# Altium integrated library 282837-3.IntLib: 1 symbol
Pins are listed as number, name and electrical type; pins without a type are passive.

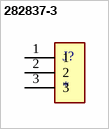
[diagram p0: symbol 282837-3]

## 282837-3
designator J?
TERMI-BLOK PCB MOUNT 3P; MP: 282837-3; Availability: Unavailable; Package: None; Value: *; Price: None
footprint TE_282837-3
pins: 1, 2, 3